# Altium schematic symbol library Texas_Instruments_LMR64010XMF_NOPB.SchLib: 1 symbol
Pins are listed as number, name and electrical type; pins without a type are passive.

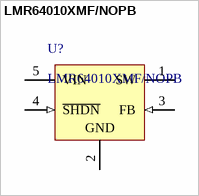
[diagram p0: symbol LMR64010XMF/NOPB]

## LMR64010XMF/NOPB
designator U?
Simple Switcher Step-Up Voltage Regulator, 2.7 to 14 V Input, 1 A, 40 V Max Output, -40 to 125 degC, 5-Pin SOT-23 (DBV), Green (RoHS & no Sb/Br); Manufacturer: Texas Instruments; Iout: 1 A Max.; Vout: 40 V Max.; Vin: 2.7 V Min.; Topology: Boost; Packing: Tape and Reel; Regulated Outputs(#): 1; ComponentLink1Description: Manufacturer URL; ComponentLink2Description: Datasheet; Operating Temperature Range: -40 to 125 degC; ComponentLink3Description: Package Specification; ComponentLink1URL: www.ti.com; ComponentLink3URL: http://www.ti.com/lit/ml/mpds018j/mpds018j.pdf; DatasheetVersion: SNVS736B; PartNumber: LMR64010XMF/NOPB; ComponentLink2URL: http://www.ti.com/lit/ds/symlink/lmr64010.pdf; Mounting Technology: Surface Mount; PackageDescription: 5-Pin Plastic Small Outline, Body 1.6 x 2.9 mm, Pitch 0.95 mm; PackageVersion: 4073253-4/L; RoHS: TRUE
footprint TI-DBV5_V
pins: 1 SW (power) "Drain of the internal FET switch.", 2 GND (power) "Analog and power ground.", 3 FB (in) "Feedback point that connects to external resistive divider.", 4 ~{SHDN} (in) "Shutdown control input. Connect to VIN if this feature is not used.", 5 VIN (power) "Analog and power input."